# EAGLE library part 767-163-R510-ND (library Resistors - Networks,Arrays)
CTS Leaded Surface Mount Series 767 2% Resistors
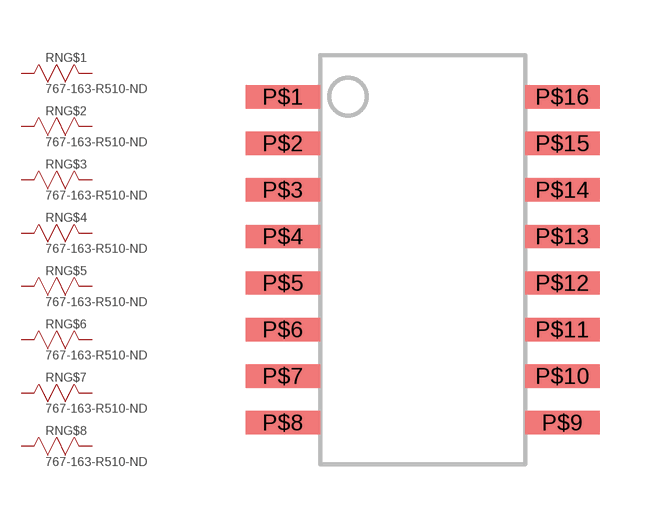
[diagram p0: symbol with the pads of 767; footprint 767]

Designator prefix RN; gates G$1=R G$2=R G$3=R G$4=R G$5=R G$6=R G$7=R G$8=R

## 767-163-R510-ND  [767]
P$1  G$1:P$1  pas
P$2  G$2:P$1  pas
P$3  G$3:P$1  pas
P$4  G$4:P$1  pas
P$5  G$5:P$1  pas
P$6  G$6:P$1  pas
P$7  G$7:P$1  pas
P$8  G$8:P$1  pas
P$9  G$8:P$2  pas
P$10  G$7:P$2  pas
P$11  G$6:P$2  pas
P$12  G$5:P$2  pas
P$13  G$4:P$2  pas
P$14  G$3:P$2  pas
P$15  G$2:P$2  pas
P$16  G$1:P$2  pas

## Footprint 767 (pad centres in mm)
smd 2.032 x 0.635: P$1 -3.81,4.445; P$2 -3.81,3.175; P$3 -3.81,1.905; P$4 -3.81,0.635; P$5 -3.81,-0.635; P$6 -3.81,-1.905; P$7 -3.81,-3.175; P$8 -3.81,-4.445; P$9 3.81,-4.445; P$10 3.81,-3.175; P$11 3.81,-1.905; P$12 3.81,-0.635; P$13 3.81,0.635; P$14 3.81,1.905; P$15 3.81,3.175; P$16 3.81,4.445